# Altium footprint library RK-1412G.PcbLib: 5 footprints
Each footprint in its own frame and in the unit in brackets; x right, y up, seen from the top. Pads: shape width x height; smd on the part's side, far side on the other; paste and mask are expansions set on the pad; w line width, h text height; cw(c..) or ccw(c..) is an arc to the next point about the centre after c.
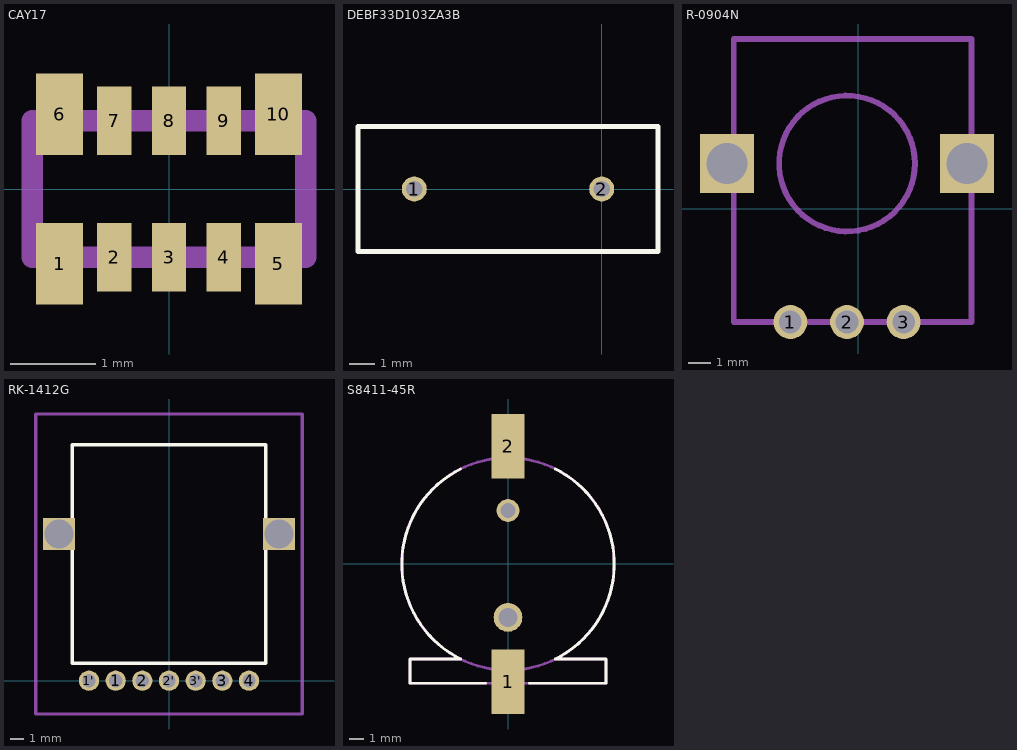
[diagram p0: the footprints below, top view; thin cyan lines are the x and y axes]

## CAY17 [mm]
pads (10):
  rect 0.55x0.95 smd: 1(-1.28,-0.875) 5(1.28,-0.875) 6(-1.28,0.875) 10(1.28,0.875)
  rect 0.4x0.8 smd: 2(-0.64,-0.8) 3(0,-0.8) 4(0.64,-0.8) 7(-0.64,0.8) 8(0,0.8) 9(0.64,0.8)
Mechanical 15:
  lines w0.254: -1.6,-0.8 1.6,-0.8 1.6,0.8 -1.6,0.8 -1.6,-0.8

## DEBF33D103ZA3B [mm]
height 9
pads (2):
  round 1 hole 0.65: 1(-7.5,0) 2(0,0)
Top Overlay:
  lines w0.2: -9.75,-2.5 2.25,-2.5 2.25,2.5 -3.5,2.5 -9.75,2.5 -9.75,-2.5

## R-0904N [mm] "R-0904N-A100K (ÐÏ1-74), L25KQ 100 êÎì, Ðåçèñòîð ïåðåìåííûé"
height 25.5
pads (5):
  round 1.5 hole 1: 1(-3,-5) 2(-0.5,-5) 3(2,-5)
  rect 2.4x2.6 hole 1.8 square: ""(-5.8,2) ""(4.8,2)
Mechanical 1:
  circle w0.254: c-0.5,2 r3
  lines w0.254: -5.5,-5 -5.5,7.5 5,7.5 5,-5 -5.5,-5

## RK-1412G [mm]
pads (9):
  round 1.524 hole 1: 1(-4,0) 1'(-6,0) 2(-2,0) 2'(0,0) 3(4,0) 3'(2,0) 4(6,0)
  rect 2.4x2.4 hole 2.2 square: ""(-8.25,11) ""(8.25,11)
Top Overlay:
  lines w0.254: -7.25,1.3 7.25,1.3 7.25,17.7 -7.25,17.7 -7.25,1.3
Mechanical 1:
  lines w0.254: -10,-2.5 -10,20 10,20 10,-2.5 -10,-2.5

## S8411-45R [mm] "holder from 1220 battary"
height 4
pads (4):
  rect 2.3x4.5 smd: 1(0,-8.2) 2(0,8.2)
  round 2 hole 1.3: ""(0,-3.725)
  round 1.6 hole 1.05: ""(0,3.725)
Top Overlay:
  lines w0.2: -3.302,6.622 ccw(c0,0) -3.29,-6.628 ; -3.297,-6.625 -6.832,-6.625 -6.832,-8.307 -1.553,-8.307 ; 1.49,-8.307 6.832,-8.307 6.832,-6.625 3.296,-6.625 ; 3.29,6.628 cw(c0,0) 3.302,-6.623
Mechanical 15:
  circle w0.2: c0,0 r7.4
  lines w0.2: -3.27,-6.625 -6.832,-6.625 -6.832,-8.307 6.832,-8.307 6.832,-6.625 3.27,-6.625
3D body "User Library-s8411-45r_asm.STEP": height 4.25, standoff -1, extent -7.374,-10.3 7.374,8.901